# Altium footprint library Low Profile Module (LPM).PcbLib: 2 footprints
Each footprint in its own frame and in the unit in brackets; x right, y up, seen from the top. Pads: shape width x height; smd on the part's side, far side on the other; paste and mask are expansions set on the pad; w line width, h text height; cw(c..) or ccw(c..) is an arc to the next point about the centre after c.
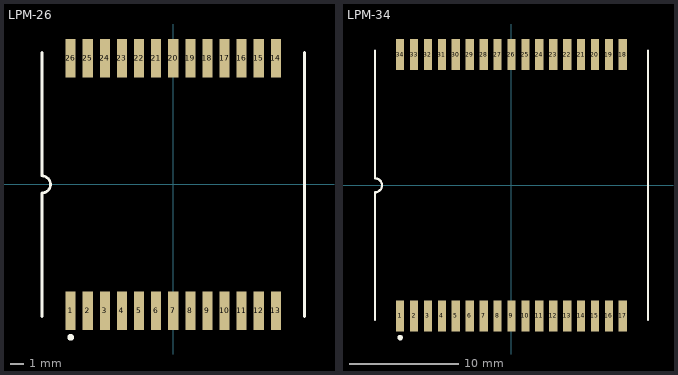
[diagram p0: the footprints below, top view; thin cyan lines are the x and y axes]

## LPM-26 [mm] "LPM; 26 Leads; Body 19.3 x 20 mm (LxW typ); Pitch 1.27 mm"
height 5.72
pads (26):
  rect 0.75x2.85 smd: 1(-7.62,-9.375) 2(-6.35,-9.375) 3(-5.08,-9.375) 4(-3.81,-9.375) 5(-2.54,-9.375) 6(-1.27,-9.375) 7(0,-9.375) 8(1.27,-9.375) 9(2.54,-9.375) 10(3.81,-9.375) 11(5.08,-9.375) 12(6.35,-9.375) 13(7.62,-9.375) 14(7.62,9.375) 15(6.35,9.375) 16(5.08,9.375) 17(3.81,9.375) 18(2.54,9.375) 19(1.27,9.375) 20(0,9.375) 21(-1.27,9.375) 22(-2.54,9.375) 23(-3.81,9.375) 24(-5.08,9.375) 25(-6.35,9.375) 26(-7.62,9.375)
Top Overlay:
  circle w0.25: c-7.62,-11.35 r0.125
  lines w0.2: -9.75,-9.8 -9.75,-0.635 ccw(c-9.75,0) -9.75,0.635 -9.75,9.8 ; 9.75,-9.8 9.75,9.8

## LPM-34 [mm] "LPM; 34 Leads; Body 24.6 x 25 mm (LxW typ); Pitch 1.27 mm"
height 6.35
pads (34):
  rect 0.75x2.85 smd: 1(-10.16,-11.925) 2(-8.89,-11.925) 3(-7.62,-11.925) 4(-6.35,-11.925) 5(-5.08,-11.925) 6(-3.81,-11.925) 7(-2.54,-11.925) 8(-1.27,-11.925) 9(0,-11.925) 10(1.27,-11.925) 11(2.54,-11.925) 12(3.81,-11.925) 13(5.08,-11.925) 14(6.35,-11.925) 15(7.62,-11.925) 16(8.89,-11.925) 17(10.16,-11.925) 18(10.16,11.925) 19(8.89,11.925) 20(7.62,11.925) 21(6.35,11.925) 22(5.08,11.925) 23(3.81,11.925) 24(2.54,11.925) 25(1.27,11.925) 26(0,11.925) 27(-1.27,11.925) 28(-2.54,11.925) 29(-3.81,11.925) 30(-5.08,11.925) 31(-6.35,11.925) 32(-7.62,11.925) 33(-8.89,11.925) 34(-10.16,11.925)
Top Overlay:
  circle w0.25: c-10.16,-13.9 r0.125
  lines w0.2: -12.45,-12.3 -12.45,-0.635 ccw(c-12.45,0) -12.45,0.635 -12.45,12.3 ; 12.45,-12.3 12.45,12.3